# EAGLE library part SN74HCT573PWR (library SamacSys_Parts)
Texas Instruments SN74HCT573PWR, Octal D Type Latch, Transparent, 3 State, 4.5 5.5 V, 20-Pin TSSOP Source: Datasheet <http://www.ti.com/lit/gpn/sn74hct573>
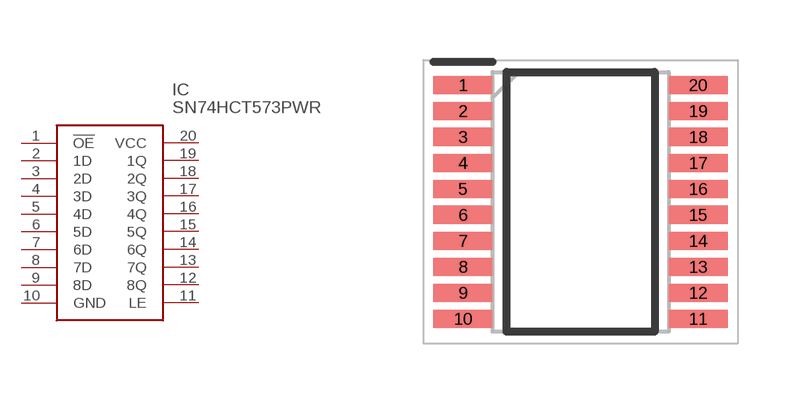
[diagram p235: symbol with the pads of SOP65P640X120-20N; footprint SOP65P640X120-20N]

Designator prefix IC

## SN74HCT573PWR (DESCRIPTION: Texas Instruments SN74HCT573PWR, Octal D Type Latch, Transparent, 3 State, 4.5 5.5 V, 20-Pin TSSOP; HEIGHT: 1.2mm; MANUFACTURER_NAME: Texas Instruments; MANUFACTURER_PART_NUMBER: SN74HCT573PWR; MOUSER_PART_NUMBER: 595-SN74HCT573PWR; MOUSER_PRICE-STOCK: https://www.mouser.co.uk/ProductDetail/Texas-Instruments/SN74HCT573PWR?qs=CCO124VRWrmt55RoEPLmzg%3D%3D)  [SOP65P640X120-20N]
1  !OE
2  1D
3  2D
4  3D
5  4D
6  5D
7  6D
8  7D
9  8D
10  GND
11  LE
12  8Q
13  7Q
14  6Q
15  5Q
16  4Q
17  3Q
18  2Q
19  1Q
20  VCC

## Footprint SOP65P640X120-20N (pad centres in mm)
PW (R-PDSO-G20)
smd 1.475 x 0.45: 1 -2.938,2.925; 2 -2.938,2.275; 3 -2.938,1.625; 4 -2.938,0.975; 5 -2.938,0.325; 6 -2.938,-0.325; 7 -2.938,-0.975; 8 -2.938,-1.625; 9 -2.938,-2.275; 10 -2.938,-2.925; 11 2.938,-2.925; 12 2.938,-2.275; 13 2.938,-1.625; 14 2.938,-0.975; 15 2.938,-0.325; 16 2.938,0.325; 17 2.938,0.975; 18 2.938,1.625; 19 2.938,2.275; 20 2.938,2.925